# EAGLE library part STP08DP05TTR (library ecad)
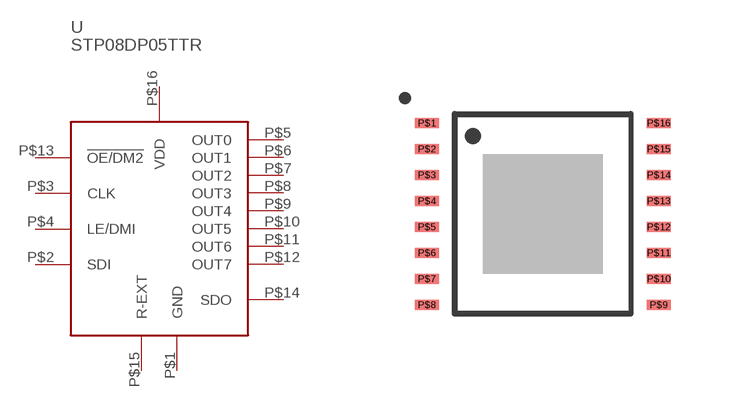
[diagram p0: symbol with the pads of STP08DP05TTR; footprint STP08DP05TTR]

Designator prefix U

## STP08DP05TTRSTP08DP05TTR  [STP08DP05TTR]
P$1  GND  pas
P$2  SDI  pas
P$3  CLK  pas
P$4  LE/DMI  pas
P$5  OUT0  pas
P$6  OUT1  pas
P$7  OUT2  pas
P$8  OUT3  pas
P$9  OUT4  pas
P$10  OUT5  pas
P$11  OUT6  pas
P$12  OUT7  pas
P$13  !OE/DM2  pas
P$14  SDO  pas
P$15  R-EXT  pas
P$16  VDD  pas

## Footprint STP08DP05TTR (pad centres in mm)
smd 0.6 x 0.25: P$1 -2.9,2.275; P$2 -2.9,1.625; P$3 -2.9,0.975; P$4 -2.9,0.325; P$5 -2.9,-0.325; P$6 -2.9,-0.975; P$7 -2.9,-1.625; P$8 -2.9,-2.275; P$9 2.9,-2.275; P$10 2.9,-1.625; P$11 2.9,-0.975; P$12 2.9,-0.325; P$13 2.9,0.325; P$14 2.9,0.975; P$15 2.9,1.625; P$16 2.9,2.275